# Altium schematic symbol library JST PH Connectors.SchLib: 30 symbols
Pins are listed as number, name and electrical type; pins without a type are passive.

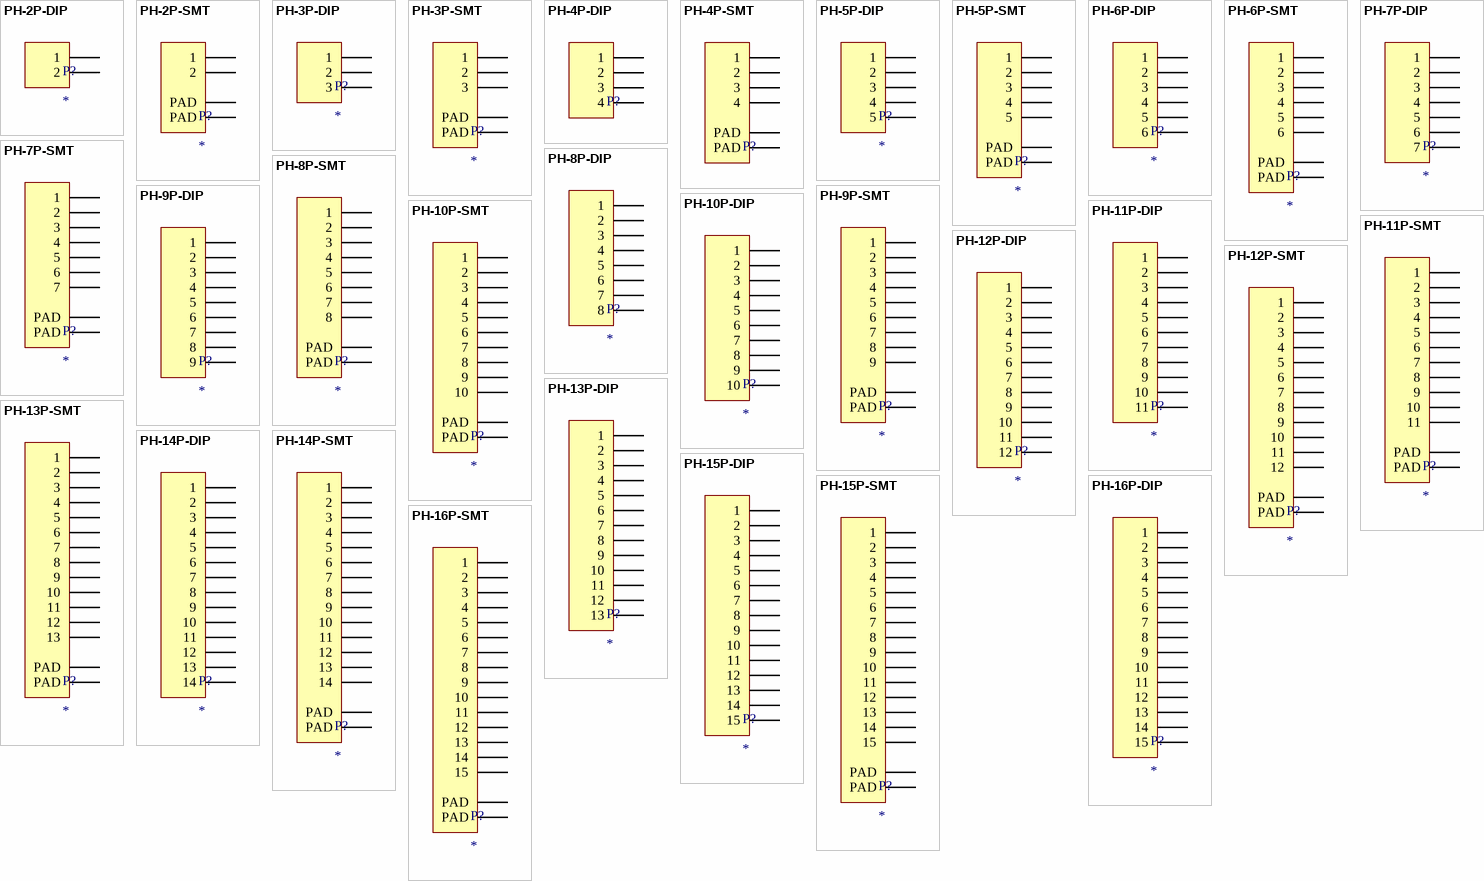
[diagram p0: symbols PH-2P-DIP to PH-16P-SMT]

## PH-2P-DIP
designator P?
2A, 100V, 2mm pitch connector
footprint B2B -PH-K-S
footprint S2B-PH-K-S
pins: 1, 2

## PH-2P-SMT
designator P?
2A, 100V, 2mm pitch connector
footprint S2B-PH-SM4-TB
footprint B2B-PH-SM4-TB
pins: 0 PAD, 1, 2, 100 PAD

## PH-3P-DIP
designator P?
2A, 100V, 2mm pitch connector
footprint B3B -PH-K-S
footprint S3B-PH-K-S
pins: 1, 2, 3

## PH-3P-SMT
designator P?
2A, 100V, 2mm pitch connector
footprint S3B-PH-SM4-TB
footprint B3B-PH-SM4-TB
pins: 0 PAD, 1, 2, 3, 100 PAD

## PH-4P-DIP
designator P?  (value not drawn)
2A, 100V, 2mm pitch connector
footprint B4B -PH-K-S
footprint S4B-PH-K-S
pins: 1, 2, 3, 4

## PH-4P-SMT
designator P?  (value not drawn)
2A, 100V, 2mm pitch connector
footprint S4B-PH-SM4-TB
footprint B4B-PH-SM4-TB
pins: 0 PAD, 1, 2, 3, 4, 100 PAD

## PH-5P-DIP
designator P?
2A, 100V, 2mm pitch connector
footprint B5B -PH-K-S
footprint S5B-PH-K-S
pins: 1, 2, 3, 4, 5

## PH-5P-SMT
designator P?
2A, 100V, 2mm pitch connector
footprint S5B-PH-SM4-TB
footprint B5B-PH-SM4-TB
pins: 0 PAD, 1, 2, 3, 4, 5, 100 PAD

## PH-6P-DIP
designator P?
2A, 100V, 2mm pitch connector
footprint B6B -PH-K-S
footprint S6B-PH-K-S
pins: 1, 2, 3, 4, 5, 6

## PH-6P-SMT
designator P?
2A, 100V, 2mm pitch connector
footprint S6B-PH-SM4-TB
footprint B6B-PH-SM4-TB
pins: 0 PAD, 1, 2, 3, 4, 5, 6, 100 PAD

## PH-7P-DIP
designator P?
2A, 100V, 2mm pitch connector
footprint B7B -PH-K-S
footprint S7B-PH-K-S
pins: 1, 2, 3, 4, 5, 6, 7

## PH-7P-SMT
designator P?
2A, 100V, 2mm pitch connector
footprint S7B-PH-SM4-TB
footprint B7B-PH-SM4-TB
pins: 0 PAD, 1, 2, 3, 4, 5, 6, 7, 100 PAD

## PH-8P-DIP
designator P?
2A, 100V, 2mm pitch connector
footprint B8B -PH-K-S
footprint S8B-PH-K-S
pins: 1, 2, 3, 4, 5, 6, 7, 8

## PH-8P-SMT
designator P?
2A, 100V, 2mm pitch connector
footprint S8B-PH-SM4-TB
footprint B8B-PH-SM4-TB
pins: 0 PAD, 1, 2, 3, 4, 5, 6, 7, 8, 100 PAD

## PH-9P-DIP
designator P?
2A, 100V, 2mm pitch connector
footprint B9B -PH-K-S
footprint S9B-PH-K-S
pins: 1, 2, 3, 4, 5, 6, 7, 8, 9

## PH-9P-SMT
designator P?
2A, 100V, 2mm pitch connector
footprint S9B-PH-SM4-TB
footprint B9B-PH-SM4-TB
pins: 0 PAD, 1, 2, 3, 4, 5, 6, 7, 8, 9, 100 PAD

## PH-10P-DIP
designator P?
2A, 100V, 2mm pitch connector
footprint B10B -PH-K-S
footprint S10B-PH-K-S
pins: 1, 2, 3, 4, 5, 6, 7, 8, 9, 10

## PH-10P-SMT
designator P?
2A, 100V, 2mm pitch connector
footprint S10B-PH-SM4-TB
footprint B10B-PH-SM4-TB
pins: 0 PAD, 1, 2, 3, 4, 5, 6, 7, 8, 9, 10, 100 PAD

## PH-11P-DIP
designator P?
2A, 100V, 2mm pitch connector
footprint B11B -PH-K-S
footprint S11B-PH-K-S
pins: 1, 2, 3, 4, 5, 6, 7, 8, 9, 10, 11

## PH-11P-SMT
designator P?
2A, 100V, 2mm pitch connector
footprint S11B-PH-SM4-TB
footprint B11B-PH-SM4-TB
pins: 0 PAD, 1, 2, 3, 4, 5, 6, 7, 8, 9, 10, 11, 100 PAD

## PH-12P-DIP
designator P?
2A, 100V, 2mm pitch connector
footprint B12B -PH-K-S
footprint S12B-PH-K-S
pins: 1, 2, 3, 4, 5, 6, 7, 8, 9, 10, 11, 12

## PH-12P-SMT
designator P?
2A, 100V, 2mm pitch connector
footprint S12B-PH-SM4-TB
footprint B12B-PH-SM4-TB
pins: 0 PAD, 1, 2, 3, 4, 5, 6, 7, 8, 9, 10, 11, 12, 100 PAD

## PH-13P-DIP
designator P?
2A, 100V, 2mm pitch connector
footprint B13B -PH-K-S
footprint S13B-PH-K-S
pins: 1, 2, 3, 4, 5, 6, 7, 8, 9, 10, 11, 12, 13

## PH-13P-SMT
designator P?
2A, 100V, 2mm pitch connector
footprint S13B-PH-SM4-TB
footprint B13B-PH-SM4-TB
pins: 0 PAD, 1, 2, 3, 4, 5, 6, 7, 8, 9, 10, 11, 12, 13, 100 PAD

## PH-14P-DIP
designator P?
2A, 100V, 2mm pitch connector
footprint B14B -PH-K-S
footprint S14B-PH-K-S
pins: 1, 2, 3, 4, 5, 6, 7, 8, 9, 10, 11, 12, 13, 14

## PH-14P-SMT
designator P?
2A, 100V, 2mm pitch connector
footprint S14B-PH-SM4-TB
footprint B14B-PH-SM4-TB
pins: 0 PAD, 1, 2, 3, 4, 5, 6, 7, 8, 9, 10, 11, 12, 13, 14, 100 PAD

## PH-15P-DIP
designator P?
2A, 100V, 2mm pitch connector
footprint B15B -PH-K-S
footprint S15B-PH-K-S
pins: 1, 2, 3, 4, 5, 6, 7, 8, 9, 10, 11, 12, 13, 14, 15

## PH-15P-SMT
designator P?
2A, 100V, 2mm pitch connector
footprint S15B-PH-SM4-TB
footprint B15B-PH-SM4-TB
pins: 0 PAD, 1, 2, 3, 4, 5, 6, 7, 8, 9, 10, 11, 12, 13, 14, 15, 100 PAD

## PH-16P-DIP
designator P?
2A, 100V, 2mm pitch connector
footprint B16B -PH-K-S
footprint S16B-PH-K-S
pins: 1, 2, 3, 4, 5, 6, 7, 8, 9, 10, 11, 12, 13, 14, 15

## PH-16P-SMT
designator P?
2A, 100V, 2mm pitch connector
footprint B16B-PH-SM4-TB
pins: 0 PAD, 1, 2, 3, 4, 5, 6, 7, 8, 9, 10, 11, 12, 13, 14, 15, 100 PAD